# EAGLE library part Z84C00X (library micro-zilog-jlb)
Z80 FAMILY DEVICE
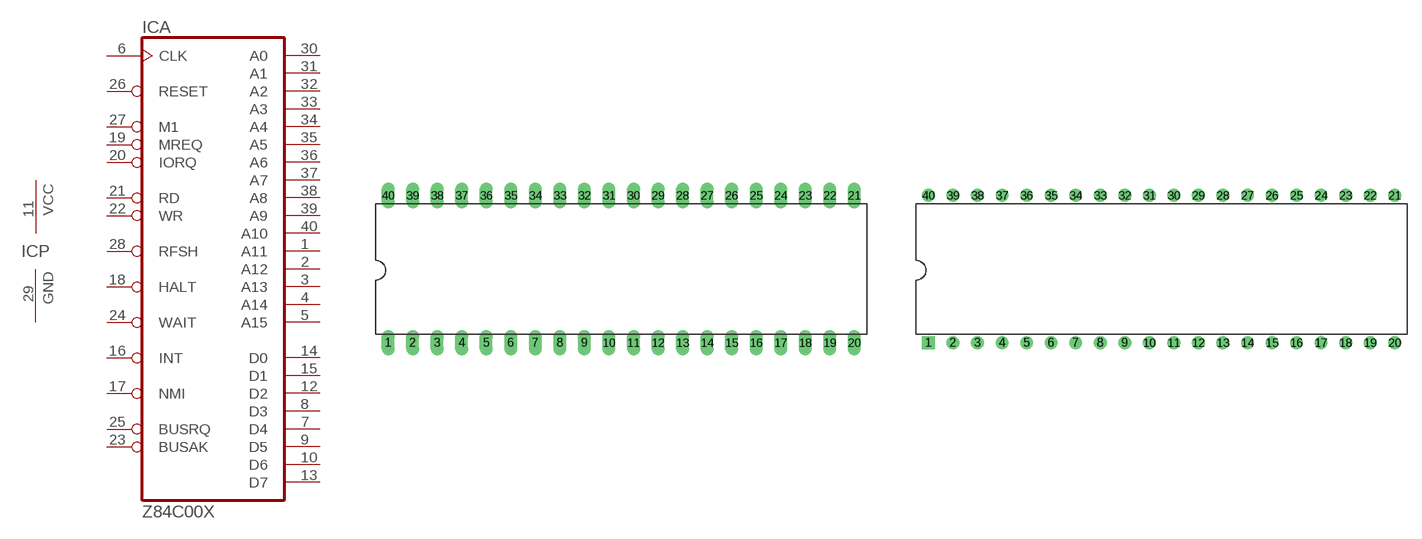
[diagram p0: symbol with the pads of DIL40; footprints DIL40, DIL40-ROUNDPAD]

Designator prefix IC; gates A=Z80CPU P=PWR-GND

## Z84C00X  [DIL40]
1  A:A11  out
2  A:A12  out
3  A:A13  out
4  A:A14  out
5  A:A15  out
6  A:CLK  in
7  A:D4
8  A:D3
9  A:D5
10  A:D6
11  P:VCC  pwr
12  A:D2
13  A:D7
14  A:D0
15  A:D1
16  A:INT  in
17  A:NMI  in
18  A:HALT  out
19  A:MREQ  out
20  A:IORQ  out
21  A:RD  out
22  A:WR  out
23  A:BUSAK  out
24  A:WAIT  in
25  A:BUSRQ  in
26  A:RESET  in
27  A:M1  out
28  A:RFSH  out
29  P:GND  pwr
30  A:A0  out
31  A:A1  out
32  A:A2  out
33  A:A3  out
34  A:A4  out
35  A:A5  out
36  A:A6  out
37  A:A7  out
38  A:A8  out
39  A:A9  out
40  A:A10  out

## Z84C00X-R  [DIL40-ROUNDPAD]
Pads as for DIL40

## Z84C00XF  [TQFP44]
1  A:CLK  in
2  A:D4
3  A:D3
4  A:D5
5  A:D6
6  P:VCC  pwr
7  A:D2
8  A:D7
9  A:D0
10  A:D1
12  A:INT  in
13  A:NMI  in
14  A:HALT  out
15  A:MREQ  out
16  A:IORQ  out
18  A:RD  out
19  A:WR  out
20  A:BUSAK  out
21  A:WAIT  in
22  A:BUSRQ  in
23  A:RESET  in
24  A:M1  out
25  A:RFSH  out
26  P:GND  pwr
27  A:A0  out
28  A:A1  out
29  A:A2  out
30  A:A3  out
31  A:A4  out
32  A:A5  out
34  A:A6  out
35  A:A7  out
36  A:A8  out
37  A:A9  out
38  A:A10  out
40  A:A11  out
41  A:A12  out
42  A:A13  out
43  A:A14  out
44  A:A15  out

## Footprint DIL40 (pad centres in mm)
Dual In Line Package
drill 0.813 long: 1 -24.13,-7.62; 2 -21.59,-7.62; 3 -19.05,-7.62; 4 -16.51,-7.62; 5 -13.97,-7.62; 6 -11.43,-7.62; 7 -8.89,-7.62; 8 -6.35,-7.62; 9 -3.81,-7.62; 10 -1.27,-7.62; 11 1.27,-7.62; 12 3.81,-7.62; 13 6.35,-7.62; 14 8.89,-7.62; 15 11.43,-7.62; 16 13.97,-7.62; 17 16.51,-7.62; 18 19.05,-7.62; 19 21.59,-7.62; 20 24.13,-7.62; 21 24.13,7.62; 22 21.59,7.62; 23 19.05,7.62; 24 16.51,7.62; 25 13.97,7.62; 26 11.43,7.62; 27 8.89,7.62; 28 6.35,7.62; 29 3.81,7.62; 30 1.27,7.62; 31 -1.27,7.62; 32 -3.81,7.62; 33 -6.35,7.62; 34 -8.89,7.62; 35 -11.43,7.62; 36 -13.97,7.62; 37 -16.51,7.62; 38 -19.05,7.62; 39 -21.59,7.62; 40 -24.13,7.62

## Footprint DIL40-ROUNDPAD (pad centres in mm)
Dual In Line Package
drill 0.813 square: 1 -24.13,-7.62
drill 0.813: 2 -21.59,-7.62; 3 -19.05,-7.62; 4 -16.51,-7.62; 5 -13.97,-7.62; 6 -11.43,-7.62; 7 -8.89,-7.62; 8 -6.35,-7.62; 9 -3.81,-7.62; 10 -1.27,-7.62; 11 1.27,-7.62; 12 3.81,-7.62; 13 6.35,-7.62; 14 8.89,-7.62; 15 11.43,-7.62; 16 13.97,-7.62; 17 16.51,-7.62; 18 19.05,-7.62; 19 21.59,-7.62; 20 24.13,-7.62; 21 24.13,7.62; 22 21.59,7.62; 23 19.05,7.62; 24 16.51,7.62; 25 13.97,7.62; 26 11.43,7.62; 27 8.89,7.62; 28 6.35,7.62; 29 3.81,7.62; 30 1.27,7.62; 31 -1.27,7.62; 32 -3.81,7.62; 33 -6.35,7.62; 34 -8.89,7.62; 35 -11.43,7.62; 36 -13.97,7.62; 37 -16.51,7.62; 38 -19.05,7.62; 39 -21.59,7.62; 40 -24.13,7.62

## Footprint TQFP44 (pad centres in mm)
44-lead Thin Quad Flat Package
smd 1.5 x 0.5: 1 -5.8,4; 2 -5.8,3.2; 3 -5.8,2.4; 4 -5.8,1.6; 5 -5.8,0.8; 6 -5.8,0; 7 -5.8,-0.8; 8 -5.8,-1.6; 9 -5.8,-2.4; 10 -5.8,-3.2; 11 -5.8,-4; 23 5.8,-4; 24 5.8,-3.2; 25 5.8,-2.4; 26 5.8,-1.6; 27 5.8,-0.8; 28 5.8,0; 29 5.8,0.8; 30 5.8,1.6; 31 5.8,2.4; 32 5.8,3.2; 33 5.8,4
smd 0.5 x 1.5: 12 -4,-5.8; 13 -3.2,-5.8; 14 -2.4,-5.8; 15 -1.6,-5.8; 16 -0.8,-5.8; 17 0,-5.8; 18 0.8,-5.8; 19 1.6,-5.8; 20 2.4,-5.8; 21 3.2,-5.8; 22 4,-5.8; 34 4,5.8; 35 3.2,5.8; 36 2.4,5.8; 37 1.6,5.8; 38 0.8,5.8; 39 0,5.8; 40 -0.8,5.8; 41 -1.6,5.8; 42 -2.4,5.8; 43 -3.2,5.8; 44 -4,5.8